# Altium schematic symbol library CS4334.SchLib: 1 symbol
Pins are listed as number, name and electrical type; pins without a type are passive.

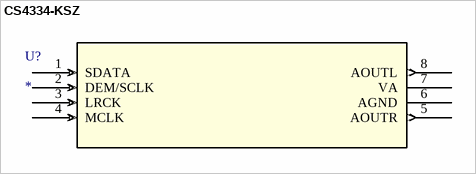
[diagram p0: symbol CS4334-KSZ]

## CS4334-KSZ
designator U?
Imported; Manufacturer_Part_Number: CS4334-KSZ; Vendor: Cirrus Logic; Built_By: EMA_UL_Team; C: Copyright (C) 2015 Accelerated Designs. All rights reserved; RefDes: RefDes; Type: DEV; Value: Value
footprint CIR-SOIC-8_W150
pins: 1 SDATA (in), 2 DEM/SCLK (in), 3 LRCK (in), 4 MCLK (in), 5 AOUTR (out), 6 AGND (power), 7 VA (power), 8 AOUTL (out)